# Altium schematic symbol library CONN_HDR_5X2.SchLib: 1 symbol
Pins are listed as number, name and electrical type; pins without a type are passive.

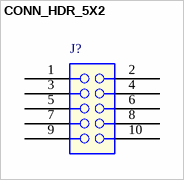
[diagram p0: symbol CONN_HDR_5X2]

## CONN_HDR_5X2
designator J?
HDR 2X5 TH 50MIL CTR 167H AU 91L
pins: 1 A1, 2 B1, 3 A2, 4 B2, 5 A3, 6 B3, 7 A4, 8 B4, 9 A5, 10 B5